# Altium footprint library 744821xxx_XS.PcbLib: 1 footprints
Each footprint in its own frame and in the unit in brackets; x right, y up, seen from the top. Pads: shape width x height; smd on the part's side, far side on the other; paste and mask are expansions set on the pad; w line width, h text height; cw(c..) or ccw(c..) is an arc to the next point about the centre after c.
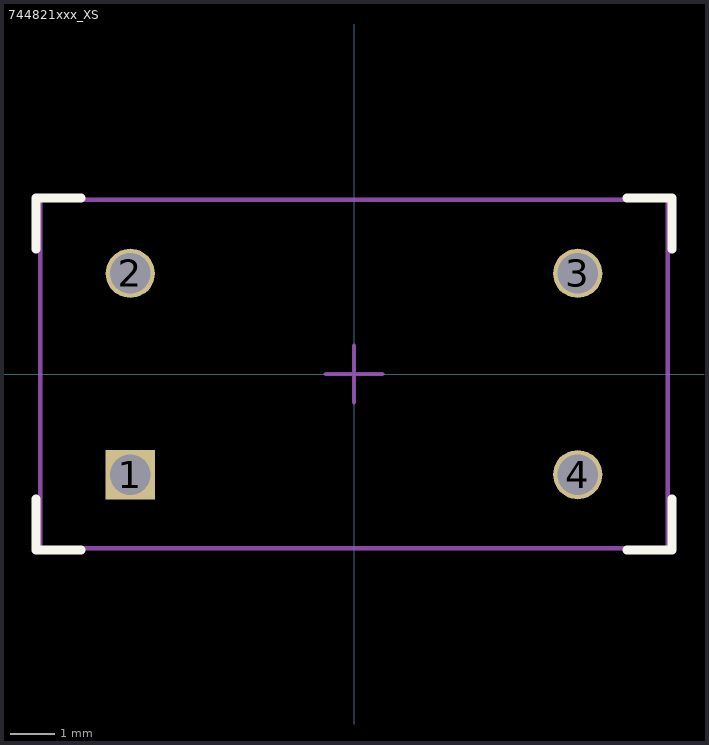
[diagram p0: the footprint, top view; thin cyan lines are the x and y axes]

## 744821xxx_XS [mm]
height 18
pads (4):
  rect 1.1x1.1 hole 0.9 mask+0.05: 1(-5,-2.25)
  round 1.1 hole 0.9 mask+0.05: 2(-5,2.25) 3(5,2.25) 4(5,-2.25)
Top Overlay:
  lines w0.2: -7.112,-2.794 -7.112,-3.937 -6.096,-3.937 ; -7.112,2.794 -7.112,3.937 -6.096,3.937 ; 6.096,-3.937 7.112,-3.937 7.112,-2.794 ; 6.096,3.937 7.112,3.937 7.112,2.794
Mechanical 15:
  lines w0.1: -0.635,0 0.635,0 ; 0,-0.635 0,0.635 ; -7.011,-3.9 7.011,-3.9 7.011,3.9 -7.011,3.9 -7.011,-3.9
3D body: height 16.22, standoff -3.6, extent -6.897,-3.75 6.897,3.75